# EAGLE library part PIN_LAYOUT_FOR_EXTENSION (library Arduino_Nano)
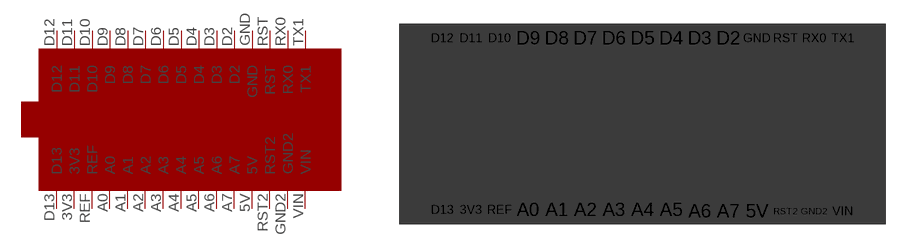
[diagram p0: symbol with the pads of PIN_LAYOUT_FOR_EXTENSION; footprint PIN_LAYOUT_FOR_EXTENSION]

Designator prefix -

## PIN_LAYOUT_FOR_EXTENSION  [PIN_LAYOUT_FOR_EXTENSION]
3V3  3V3  pwr
5V  5V  pwr
A0  A0
A1  A1
A2  A2
A3  A3
A4  A4
A5  A5
A6  A6
A7  A7
D2  D2
D3  D3
D4  D4
D5  D5
D6  D6
D7  D7
D8  D8
D9  D9
D10  D10
D11  D11
D12  D12
D13  D13
GND  GND  pwr
GND2  GND2  pwr
REF  REF
RST  RST
RST2  RST2
RX0  RX0
TX1  TX1
VIN  VIN  pwr

## Footprint PIN_LAYOUT_FOR_EXTENSION (pad centres in mm)
drill 0.9 pad 1.778: 3V3 -13.589,-7.366; 5V 11.811,-7.493; A0 -8.509,-7.366; A1 -5.969,-7.366; A2 -3.429,-7.366; A3 -0.889,-7.366; A4 1.651,-7.366; A5 4.191,-7.366; A6 6.731,-7.493; A7 9.271,-7.493; D2 9.271,7.874; D3 6.731,7.874; D4 4.191,7.874; D5 1.651,7.874; D6 -0.889,7.874; D7 -3.429,7.874; D8 -5.969,7.874; D9 -8.509,7.874; D10 -11.049,7.874; D11 -13.589,7.874; D12 -16.129,7.874; D13 -16.129,-7.366; GND 11.811,7.874; GND2 16.891,-7.493; REF -11.049,-7.366; RST 14.351,7.874; RST2 14.351,-7.493; RX0 16.891,7.874; TX1 19.431,7.874; VIN 19.431,-7.493